# EAGLE library part ISP1807-LR (library flync)
Insight SiP Source: Datasheet <https://componentsearchengine.com/Datasheets/1/ISP1807-LR.pdf>
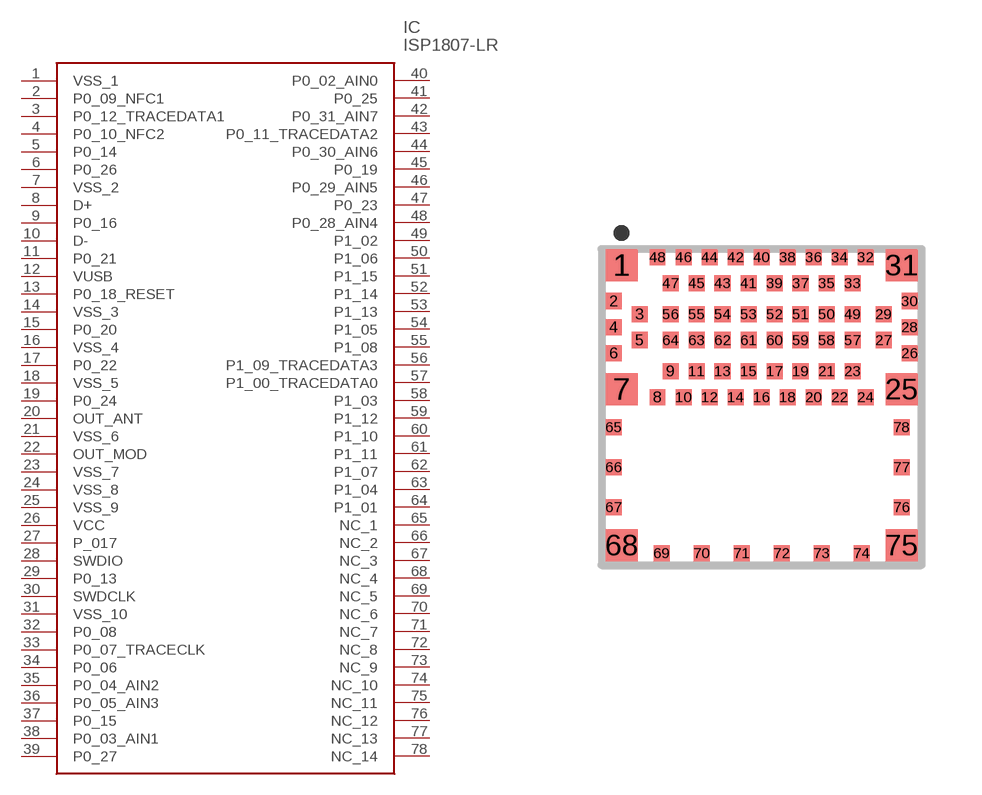
[diagram p2: symbol with the pads of ISP1807LR; footprint ISP1807LR]

Designator prefix IC

## ISP1807-LR (DESCRIPTION: Insight SiP; HEIGHT: 1mm; MANUFACTURER_NAME: Insight SIP; MANUFACTURER_PART_NUMBER: ISP1807-LR; MOUSER_PART_NUMBER: N/A; MOUSER_PRICE-STOCK: https://www.mouser.com/Search/Refine.aspx?Keyword=N%2FA)  [ISP1807LR]
1  VSS_1
2  P0_09_NFC1
3  P0_12_TRACEDATA1
4  P0_10_NFC2
5  P0_14
6  P0_26
7  VSS_2
8  D+
9  P0_16
10  D-
11  P0_21
12  VUSB
13  P0_18_RESET
14  VSS_3
15  P0_20
16  VSS_4
17  P0_22
18  VSS_5
19  P0_24
20  OUT_ANT
21  VSS_6
22  OUT_MOD
23  VSS_7
24  VSS_8
25  VSS_9
26  VCC
27  P_017
28  SWDIO
29  P0_13
30  SWDCLK
31  VSS_10
32  P0_08
33  P0_07_TRACECLK
34  P0_06
35  P0_04_AIN2
36  P0_05_AIN3
37  P0_15
38  P0_03_AIN1
39  P0_27
40  P0_02_AIN0
41  P0_25
42  P0_31_AIN7
43  P0_11_TRACEDATA2
44  P0_30_AIN6
45  P0_19
46  P0_29_AIN5
47  P0_23
48  P0_28_AIN4
49  P1_02
50  P1_06
51  P1_15
52  P1_14
53  P1_13
54  P1_05
55  P1_08
56  P1_09_TRACEDATA3
57  P1_00_TRACEDATA0
58  P1_03
59  P1_12
60  P1_10
61  P1_11
62  P1_07
63  P1_04
64  P1_01
65  NC_1
66  NC_2
67  NC_3
68  NC_4
69  NC_5
70  NC_6
71  NC_7
72  NC_8
73  NC_9
74  NC_10
75  NC_11
76  NC_12
77  NC_13
78  NC_14

## Footprint ISP1807LR (pad centres in mm)
ISP1807-LR-1
smd 0.8 x 0.8: 1 0.5,-0.5; 7 0.5,-3.6; 25 7.5,-3.6; 31 7.5,-0.5; 68 0.5,-7.5; 75 7.5,-7.5
smd 0.4 x 0.4: 2 0.3,-1.4; 3 0.95,-1.725; 4 0.3,-2.05; 5 0.95,-2.375; 6 0.3,-2.7; 8 1.4,-3.8; 9 1.725,-3.15; 10 2.05,-3.8; 11 2.375,-3.15; 12 2.7,-3.8; 13 3.025,-3.15; 14 3.35,-3.8; 15 3.675,-3.15; 16 4,-3.8; 17 4.325,-3.15; 18 4.65,-3.8; 19 4.975,-3.15; 20 5.3,-3.8; 21 5.625,-3.15; 22 5.95,-3.8; 23 6.275,-3.15; 24 6.6,-3.8; 26 7.7,-2.7; 27 7.05,-2.375; 28 7.7,-2.05; 29 7.05,-1.725; 30 7.7,-1.4; 32 6.6,-0.3; 33 6.275,-0.95; 34 5.95,-0.3; 35 5.625,-0.95; 36 5.3,-0.3; 37 4.975,-0.95; 38 4.65,-0.3; 39 4.325,-0.95; 40 4,-0.3; 41 3.675,-0.95; 42 3.35,-0.3; 43 3.025,-0.95; 44 2.7,-0.3; 45 2.375,-0.95; 46 2.05,-0.3; 47 1.725,-0.95; 48 1.4,-0.3; 49 6.275,-1.725; 50 5.625,-1.725; 51 4.975,-1.725; 52 4.325,-1.725; 53 3.675,-1.725; 54 3.025,-1.725; 55 2.375,-1.725; 56 1.725,-1.725; 57 6.275,-2.375; 58 5.625,-2.375; 59 4.975,-2.375; 60 4.325,-2.375; 61 3.675,-2.375; 62 3.025,-2.375; 63 2.375,-2.375; 64 1.725,-2.375; 65 0.3,-4.55; 66 0.3,-5.55; 67 0.3,-6.55; 69 1.5,-7.7; 70 2.5,-7.7; 71 3.5,-7.7; 72 4.5,-7.7; 73 5.5,-7.7; 74 6.5,-7.7; 76 7.5,-6.55; 77 7.5,-5.55; 78 7.5,-4.55